# EAGLE library part MAX9703 (library Audio-Power-amlifier V.2.0)
The MAX9703 mono class D audio power amplifiers provide class AB amplifier performance with class D efficiency, conserving board space and eliminating the need for a bulky heatsink. Using a class D architecture, these devices deliver up to 15W while offering up to 78% efficiency. Proprietary and patent-protected modulation and switching schemes render the traditional class D output filter unnecessary.
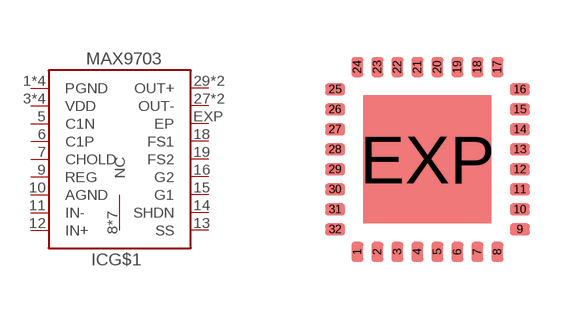
[diagram p253: symbol with the pads of TQFN32_5X5; footprint TQFN32_5X5]

Designator prefix IC; gates G$1=MAX9703 G$2=NC

## MAX9703  [TQFN32_5X5]
1  G$1:PGND  pwr
2  G$1:PGND  pwr
3  G$1:VDD  pwr
4  G$1:VDD  pwr
5  G$1:C1N
6  G$1:C1P
7  G$1:CHOLD
8  G$2:NC  nc
9  G$1:REG  out
10  G$1:AGND  pwr
11  G$1:IN-  in
12  G$1:IN+  in
13  G$1:SS
14  G$1:SHDN
15  G$1:G1  in
16  G$1:G2  in
17  G$2:NC  nc
18  G$1:FS1  in
19  G$1:FS2  in
20  G$2:NC  nc
21  G$1:VDD  pwr
22  G$1:VDD  pwr
23  G$1:PGND  pwr
24  G$1:PGND  pwr
25  G$2:NC  nc
26  G$2:NC  nc
27  G$1:OUT-  out
28  G$1:OUT-  out
29  G$1:OUT+  out
30  G$1:OUT+  out
31  G$2:NC  nc
32  G$2:NC  nc
EXP  G$1:EP  pwr

## Footprint TQFN32_5X5 (pad centres in mm)
TQFN32-5x5x0,8mm. Source: www.maxim-ic.com/packages
smd 0.3 x 0.5: 1 -1.75,-2.31; 2 -1.25,-2.31; 3 -0.75,-2.31; 4 -0.25,-2.31; 5 0.25,-2.31; 6 0.75,-2.31; 7 1.25,-2.31; 8 1.75,-2.31; 17 1.75,2.31; 18 1.25,2.31; 19 0.75,2.31; 20 0.25,2.31; 21 -0.25,2.31; 22 -0.75,2.31; 23 -1.25,2.31; 24 -1.75,2.31
smd 0.5 x 0.3: 9 2.31,-1.75; 10 2.31,-1.25; 11 2.31,-0.75; 12 2.31,-0.25; 13 2.31,0.25; 14 2.31,0.75; 15 2.31,1.25; 16 2.31,1.75; 25 -2.31,1.75; 26 -2.31,1.25; 27 -2.31,0.75; 28 -2.31,0.25; 29 -2.31,-0.25; 30 -2.31,-0.75; 31 -2.31,-1.25; 32 -2.31,-1.75
smd 3.2 x 3.2: EXP 0,0